# EAGLE library part TLI4970_D025T5 (library uchile_robotics_eagle_lib)
TLI4970-D025T5 Miniature coreless magnetic current sensor for AC and DC measurements with digital interface and fast overcurrent detection.
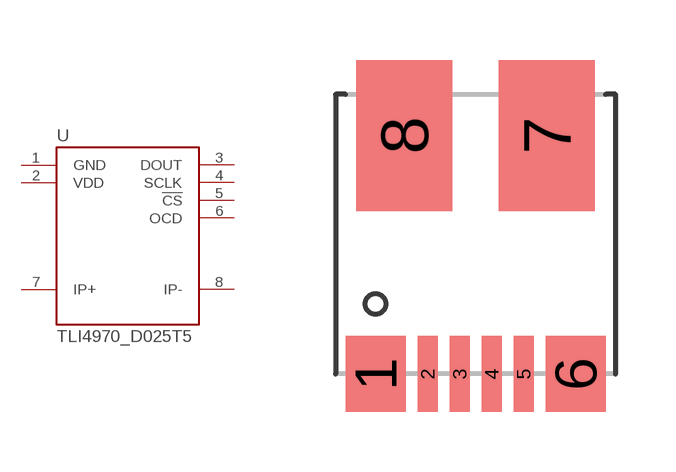
[diagram p6: symbol with the pads of TLI4970_D025T5; footprint TLI4970_D025T5]

Designator prefix -

## TLI4970_D025T5  [TLI4970_D025T5]
1  GND  pwr
2  VDD  pwr
3  DOUT  out
4  SCLK  in
5  !CS  in
6  OCD  out
7  IP+  in
8  IP-  out

## Footprint TLI4970_D025T5 (pad centres in mm)
Footprint for TLI4970-D025T5 current sensor
smd 1.5 x 1.9: 1 -2.5,-3.5; 6 2.5,-3.5
smd 0.5 x 1.9: 2 -1.2,-3.5; 3 -0.4,-3.5; 4 0.4,-3.5; 5 1.2,-3.5
smd 2.4 x 3.78: 7 1.78,2.47; 8 -1.78,2.47